# EAGLE library part DS2413-TDFN (library CindysStuff)
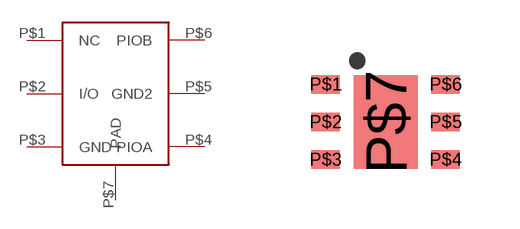
[diagram p1: symbol with the pads of TDFN-6; footprint TDFN-6]

Designator prefix -

## DS2413-TDFN  [TDFN-6]
P$1  NC
P$2  I/O
P$3  GND
P$4  PIOA
P$5  GND2
P$6  PIOB
P$7  PAD

## Footprint TDFN-6 (pad centres in mm)
smd 0.711 x 0.457: P$1 -1.499,0.94; P$2 -1.499,0; P$3 -1.499,-0.94; P$4 1.499,-0.94; P$5 1.499,0; P$6 1.499,0.94
smd 1.6 x 2.337: P$7 0,0